# Altium footprint library mw.PcbLib: 252 footprints (part 4 of 16)
Each footprint in its own frame and in the unit in brackets; x right, y up, seen from the top. Pads: shape width x height; smd on the part's side, far side on the other; paste and mask are expansions set on the pad; w line width, h text height; cw(c..) or ccw(c..) is an arc to the next point about the centre after c.
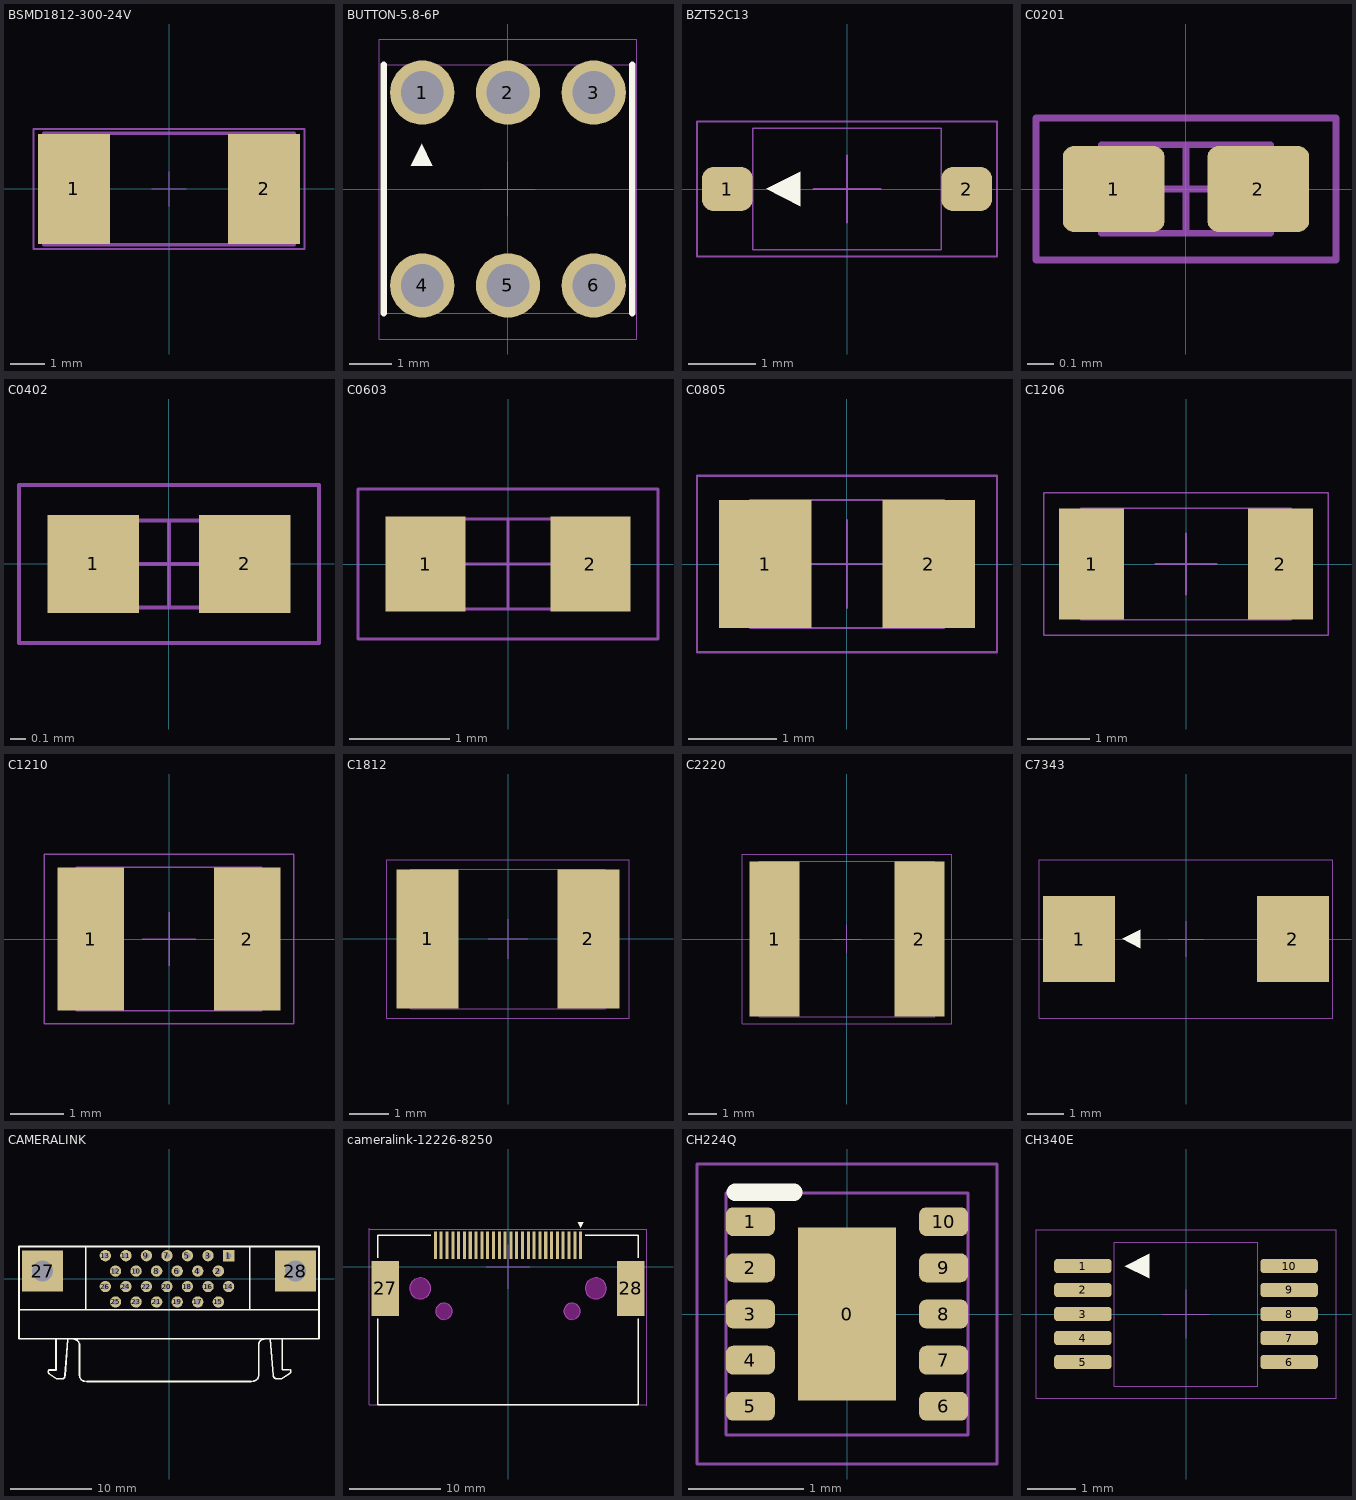
[diagram p3: the footprints below, top view; thin cyan lines are the x and y axes]

## BSMD1812-300-24V [mm] "Chip Diode, 2-Leads, Body 7.16x3.15mm, IPC High Density"
height 1.5
pads (2):
  rect 2.1x3.2 smd: 1(-2.775,0) 2(2.775,0)
Top 3D Body (Mech13):
  lines w0.1: -3.655,-1.625 3.655,-1.625 3.655,1.625 -3.655,1.625 -3.655,-1.625
Top Courtyard:
  lines w0.025: -0.5,0 0.5,0 ; 0,-0.5 0,0.5
  lines w0.05: -3.95,-1.75 3.95,-1.75 3.95,1.75 -3.95,1.75 -3.95,-1.75
3D body "BSMD1812-300-24V.step": height 1.5, standoff 0, extent -3.655,-1.625 3.655,1.625

## BUTTON-5.8-6P [mm]
pads (6):
  round 1.5 hole 1: 1(-2,2.25) 2(0,2.25) 3(2,2.25) 4(-2,-2.25) 5(0,-2.25) 6(2,-2.25)
Top Overlay:
  region: -2.27,0.543 -1.762,0.543 -2.016,1.051
  lines w0.152: -2.9,-2.9 -2.9,2.9 ; 2.9,-2.9 2.9,2.9
Top 3D Body (Mech13):
  lines w0.025: -2.9,-2.9 -2.9,2.9 2.9,2.9 2.9,-2.9 -2.9,-2.9
Top Courtyard:
  lines w0.025: -0.635,0 0.635,0 ; 0,-0.635 0,0.635 ; -3,-3.5 3,-3.5 3,3.5 -3,3.5 -3,-3.5
3D body "BUTTON-5.8-6P.step": height 10, standoff -3.6, extent -2.9,-2.9 2.9,2.9

## BZT52C13 [mm] "TSSOP, 2-Leads, Body 1.65x2.65mm, Pitch 0.50mm, IPC High Density"
height 1.25
pads (2):
  rrect50% 0.75x0.65 smd: 1(-1.775,0) 2(1.775,0)
Top Overlay:
  region: -0.692,-0.254 -0.692,0.254 -1.2,0
Top 3D Body (Mech13):
  lines w0.025: -1.4,-0.9 -1.4,0.9 1.4,0.9 1.4,-0.9 -1.4,-0.9
Top Courtyard:
  lines w0.025: -0.5,0 0.5,0 ; 0,-0.5 0,0.5 ; -2.225,-1 -2.225,1 2.225,1 2.225,-1 -2.225,-1
3D body "BZT52C13 .step": height 1.25, standoff 0, extent -1.875,-0.9 1.875,0.9

## C0201 [mm] "Chip Capacitor, 2-Leads, Body 0.60x0.30mm, IPC High Density"
height 0.33
pads (2):
  rrect25% 0.38x0.32 smd: 1(-0.27,0) 2(0.27,0)
Top 3D Body (Mech13):
  lines w0.025: -0.315,-0.165 -0.315,0.165 0.315,0.165 0.315,-0.165 -0.315,-0.165
Top Courtyard:
  lines w0.025: -0.165,0 0.165,0 ; 0,-0.165 0,0.165 ; -0.56,-0.265 -0.56,0.265 0.56,0.265 0.56,-0.265 -0.56,-0.265
3D body "C0201.step": height 0.33, standoff 0, extent -0.315,-0.165 0.315,0.165

## C0402 [mm] "Chip Capacitor, 2-Leads, Body 1.00x0.50mm, IPC Medium Density"
height 0.55
pads (2):
  rect 0.58x0.62 smd: 1(-0.48,0) 2(0.48,0)
Top 3D Body (Mech13):
  lines w0.025: -0.525,-0.275 0.525,-0.275 0.525,0.275 -0.525,0.275 -0.525,-0.275
Top Courtyard:
  lines w0.025: -0.275,0 0.275,0 ; 0,-0.275 0,0.275 ; -0.95,-0.5 0.95,-0.5 0.95,0.5 -0.95,0.5 -0.95,-0.5
3D body "CAPC1005X06N.step": height 0.55, standoff 0, extent -0.525,-0.275 0.525,0.275

## C0603 [mm] "Chip Capacitor, 2-Leads, Body 1.60x0.80mm, IPC Medium Density"
height 0.9
pads (2):
  rect 0.8x0.95 smd: 1(-0.825,0) 2(0.825,0)
Top 3D Body (Mech13):
  lines w0.025: -0.85,-0.45 0.85,-0.45 0.85,0.45 -0.85,0.45 -0.85,-0.45
Top Courtyard:
  lines w0.025: -0.45,0 0.45,0 ; 0,-0.45 0,0.45 ; -1.5,-0.75 1.5,-0.75 1.5,0.75 -1.5,0.75 -1.5,-0.75
3D body "CAPC1608X09N.step": height 0.9, standoff 0, extent -0.85,-0.45 0.85,0.45

## C0805 [mm] "Chip Capacitor, 2-Leads, Body 2.00x1.25mm, IPC Medium Density"
height 1.45
pads (2):
  rect 1.05x1.45 smd: 1(-0.925,0) 2(0.925,0)
Top 3D Body (Mech13):
  lines w0.025: -1.1,-0.725 1.1,-0.725 1.1,0.725 -1.1,0.725 -1.1,-0.725
Top Courtyard:
  lines w0.025: -0.5,0 0.5,0 ; 0,-0.5 0,0.5 ; -1.7,-1 1.7,-1 1.7,1 -1.7,1 -1.7,-1
3D body "CAPC2012X14N.step": height 1.45, standoff 0, extent -1.1,-0.725 1.1,0.725

## C1206 [mm] "Chip Capacitor, 2-Leads, Body 3.20x1.60mm, IPC Medium Density"
height 1.8
pads (2):
  rect 1.05x1.8 smd: 1(-1.525,0) 2(1.525,0)
Top 3D Body (Mech13):
  lines w0.025: -1.7,-0.9 -1.7,0.9 1.7,0.9 1.7,-0.9 -1.7,-0.9
Top Courtyard:
  lines w0.025: -0.5,0 0.5,0 ; 0,-0.5 0,0.5 ; -2.3,-1.15 -2.3,1.15 2.3,1.15 2.3,-1.15 -2.3,-1.15
3D body "CAPC3216X18N.step": height 1.8, standoff 0, extent -1.7,-0.9 1.7,0.9

## C1210 [mm] "Chip Capacitor, 2-Leads, Body 3.20x2.50mm, IPC Medium Density"
height 2.7
pads (2):
  rect 1.25x2.7 smd: 1(-1.475,0) 2(1.475,0)
Top 3D Body (Mech13):
  lines w0.025: -1.75,-1.35 1.75,-1.35 1.75,1.35 -1.75,1.35 -1.75,-1.35
Top Courtyard:
  lines w0.025: -0.5,0 0.5,0 ; 0,-0.5 0,0.5 ; -2.35,-1.6 2.35,-1.6 2.35,1.6 -2.35,1.6 -2.35,-1.6
3D body "CAPC3225X27N.step": height 2.7, standoff 0, extent -1.75,-1.35 1.75,1.35

## C1812 [mm] "Chip Capacitor, 2-Leads, Body 4.50x3.20mm, IPC Medium Density"
height 2.7
pads (2):
  rect 1.55x3.5 smd: 1(-2.025,0) 2(2.025,0)
Top 3D Body (Mech13):
  lines w0.025: -2.45,-1.75 -2.45,1.75 2.45,1.75 2.45,-1.75 -2.45,-1.75
Top Courtyard:
  lines w0.025: -0.5,0 0.5,0 ; 0,-0.5 0,0.5 ; -3.05,-2 -3.05,2 3.05,2 3.05,-2 -3.05,-2
3D body "CAPC4532X27N.step": height 2.7, standoff 0, extent -2.45,-1.75 2.45,1.75

## C2220 [mm] "Chip Capacitor, 2-Leads, Body 5.70x5.00mm, IPC Medium Density"
height 3.5
pads (2):
  rect 1.75x5.4 smd: 1(-2.525,0) 2(2.525,0)
Top 3D Body (Mech13):
  lines w0.025: -3.05,-2.7 -3.05,2.7 3.05,2.7 3.05,-2.7 -3.05,-2.7
Top Courtyard:
  lines w0.025: -0.5,0 0.5,0 ; 0,-0.5 0,0.5 ; -3.65,-2.95 -3.65,2.95 3.65,2.95 3.65,-2.95 -3.65,-2.95
3D body "CAPC5750X35N.step": height 3.5, standoff 0, extent -3.05,-2.7 3.05,2.7

## C7343 [mm] "CASE-E tan cap"
pads (2):
  rect 2x2.4 smd: 1(-2.975,0) 2(2.975,0)
Top Overlay:
  region: -1.267,-0.254 -1.267,0.254 -1.775,0
Top Courtyard:
  lines w0.025: -0.5,0 0.5,0 ; 0,-0.5 0,0.5 ; -4.089,-2.2 -4.089,2.2 4.089,2.2 4.089,-2.2 -4.089,-2.2
3D body "7343-31-CASE-D-2917.STEP": height 2.92, standoff 0, extent -3.63,-2.166 3.681,2.134

## CAMERALINK [mil]
pads (28):
  rect 55.12x55.12 hole 28: 1(290,112.5)
  round 55.12 hole 28: 2(240,37.5) 3(190,112.5) 4(140,37.5) 5(90,112.5) 6(40,37.5) 7(-10,112.5) 8(-60,37.5) 9(-110,112.5) 10(-160,37.5) 11(-210,112.5) 12(-260,37.5) 13(-310,112.5) 14(290,-37.5) 15(240,-112.5) 16(190,-37.5) 17(140,-112.5) 18(90,-37.5) 19(40,-112.5) 20(-10,-37.5) 21(-60,-112.5) 22(-110,-37.5) 23(-160,-112.5) 24(-210,-37.5) 25(-260,-112.5) 26(-310,-37.5)
  rect 200x200 hole 102: 27(-615.5,37.5) 28(615.5,37.5)
Top Overlay:
  lines w7.87: -730,-150 730,-150 ; -583.96,-462.55 -546.96,-487.26 -518.52,-487.26 ccw(c-522.55,-471.61) -506.39,-471.61 ; -583.41,-461.95 cw(c-574.52,-452.32) -584.36,-443.65 -549.71,-443.65 -549.71,-294.44 ; -506.41,-472.39 -491.84,-294.44 ; -462.7,-294.64 cw(c-462.7,-322) -435.34,-322 -435.34,-471.61 ; -435.08,-471.2 ccw(c-407.72,-471.2) -407.72,-498.56 ; -405.15,-150 -405.15,157.5 ; -400,-500 400,-500 ; 393.42,-150 393.42,157.5 ; 408.93,-497.69 ccw(c408.93,-470.32) 436.29,-470.32 ; 436.49,-470.13 436.49,-320.52 cw(c463.85,-320.52) 463.85,-293.16 ; 492.99,-292.96 507.55,-470.91 ; 507.53,-470.13 ccw(c523.7,-470.13) 519.67,-485.78 548.1,-485.78 585.11,-461.07 ; 550.86,-292.96 550.86,-442.17 585.51,-442.17 ; 588.89,-460.06 ccw(c580,-450.42) 589.84,-441.76 ; -730,-292.5 730,-292.5 730,157.5 -730,157.5 -730,-292.5

## cameralink-12226-8250 [mil]
pads (28):
  rect 13x118 smd paste+0: 1(312.5,92.52) 2(262.5,92.52) 3(212.5,92.52) 4(162.5,92.52) 5(112.5,92.52) 6(62.5,92.52) 7(12.5,92.52) 8(-37.5,92.52) 9(-87.5,92.52) 10(-137.5,92.52) 11(-187.5,92.52) 12(-237.5,92.52) 13(-287.5,92.52) 14(287.5,92.52) 15(237.5,92.52) 16(187.5,92.52) 17(137.5,92.52) 18(87.5,92.52) 19(37.5,92.52) 20(-12.5,92.52) 21(-62.5,92.52) 22(-112.5,92.52) 23(-162.5,92.52) 24(-212.5,92.52) 25(-262.5,92.52) 26(-312.5,92.52)
  rect 118x236 smd paste-118: 27(-527.56,-92.52) 28(527.56,-92.52)
Top Overlay:
  region: 300.69,192.91 312.5,169.29 324.31,192.91
  lines w6: -560,-223.62 -560,-593.11 560,-593.11 560,-223.62 ; -560,38.58 -560,136.89 -332.1,136.89 ; 332.1,136.89 560,136.89 560,38.58
Keep-Out Layer:
  board cut-out: -377.95,-137.8 -382.41,-137.8 -391.16,-136.06 -399.4,-132.64 -406.81,-127.69 -413.12,-121.38 -418.08,-113.97 -421.49,-105.73 -423.23,-96.98 -423.23,-92.52 -423.23,-88.06 -421.49,-79.31 -418.08,-71.07 -413.12,-63.66 -406.81,-57.35 -399.4,-52.4 -391.16,-48.98 -382.41,-47.24 -377.95,-47.24 -373.49,-47.24 -364.75,-48.98 -356.51,-52.4 -349.09,-57.35 -342.78,-63.66 -337.83,-71.07 -334.42,-79.31 -332.68,-88.06 -332.68,-92.52 -332.68,-96.98 -334.42,-105.73 -337.83,-113.97 -342.78,-121.38 -349.09,-127.69 -356.51,-132.64 -364.75,-136.06 -373.49,-137.8
  board cut-out: 240.16,-190.94 240.16,-194.43 241.52,-201.28 244.19,-207.72 248.07,-213.53 253,-218.46 258.81,-222.34 265.25,-225.01 272.1,-226.37 275.59,-226.37 279.08,-226.37 285.93,-225.01 292.37,-222.34 298.18,-218.46 303.11,-213.53 306.99,-207.72 309.66,-201.28 311.02,-194.43 311.02,-190.94 311.02,-187.45 309.66,-180.6 306.99,-174.16 303.11,-168.35 298.18,-163.42 292.37,-159.54 285.93,-156.87 279.08,-155.51 275.59,-155.51 272.1,-155.51 265.25,-156.87 258.81,-159.54 253,-163.42 248.07,-168.35 244.19,-174.16 241.52,-180.6 240.16,-187.45
  board cut-out: 332.68,-92.52 332.68,-96.98 334.42,-105.73 337.83,-113.97 342.78,-121.38 349.09,-127.69 356.51,-132.64 364.75,-136.06 373.49,-137.8 377.95,-137.8 382.41,-137.8 391.16,-136.06 399.4,-132.64 406.81,-127.69 413.12,-121.38 418.08,-113.97 421.49,-105.73 423.23,-96.98 423.23,-92.52 423.23,-88.06 421.49,-79.31 418.08,-71.07 413.12,-63.66 406.81,-57.35 399.4,-52.4 391.16,-48.98 382.41,-47.24 377.95,-47.24 373.49,-47.24 364.75,-48.98 356.51,-52.4 349.09,-57.35 342.78,-63.66 337.83,-71.07 334.42,-79.31 332.68,-88.06
  board cut-out: -275.59,-226.37 -279.08,-226.37 -285.93,-225.01 -292.37,-222.34 -298.18,-218.46 -303.11,-213.53 -306.99,-207.72 -309.66,-201.28 -311.02,-194.43 -311.02,-190.94 -311.02,-187.45 -309.66,-180.6 -306.99,-174.16 -303.11,-168.35 -298.18,-163.42 -292.37,-159.54 -285.93,-156.87 -279.08,-155.51 -275.59,-155.51 -272.1,-155.51 -265.25,-156.87 -258.81,-159.54 -253,-163.42 -248.07,-168.35 -244.19,-174.16 -241.52,-180.6 -240.16,-187.45 -240.16,-190.94 -240.16,-194.43 -241.52,-201.28 -244.19,-207.72 -248.07,-213.53 -253,-218.46 -258.81,-222.34 -265.25,-225.01 -272.1,-226.37
Mechanical 1:
  circle w0: c-275.59,-190.94 r35.43
  circle w0: c-377.95,-92.52 r45.28
  circle w0: c377.95,-92.52 r45.28
  circle w0: c275.59,-190.94 r35.43
Top Courtyard:
  lines w1: -596.56,161.52 596.56,161.52 596.56,-598.11 ; -596.56,166.52 -596.56,-593.11 596.56,-593.11 ; -94.49,0 94.49,0 ; 0,-94.49 0,94.49
3D body "12226-8250-00FR.stp": height 196.85, standoff -23.62, extent -555.12,-593.11 555.12,127.36

## CH224Q [mm] "PSON, 10-Leads, Body 2.00x2.00mm, Pitch 0.40mm, Thermal Pad 1.50x0.85mm, IPC Medium Density"
height 0.8
pads (11):
  rect 0.85x1.5 smd paste-0.195: 0(0,0)
  rrect50% 0.425x0.25 smd: 1(-0.837,0.8) 2(-0.837,0.4) 3(-0.837,0) 4(-0.837,-0.4) 5(-0.837,-0.8) 6(0.838,-0.8) 7(0.838,-0.4) 8(0.838,0) 9(0.838,0.4) 10(0.838,0.8)
Top Overlay:
  lines w0.15: -0.968,1.055 -0.46,1.055
Top 3D Body (Mech13):
  lines w0.025: -1.05,-1.05 -1.05,1.05 1.05,1.05 1.05,-1.05 -1.05,-1.05
Top Courtyard:
  lines w0.025: -0.381,0 0.381,0 ; 0,-0.381 0,0.381 ; -1.3,-1.3 1.3,-1.3 1.3,1.3 -1.3,1.3 -1.3,-1.3
3D body "CH224Q.step": height 0.8, standoff 0, extent -1.001,-1 1.001,1

## CH340E [mm] "TSSOP, 10-Leads, Body 3.00x3.00mm, Pitch 0.50mm, IPC Medium Density"
height 1
pads (10):
  rrect50% 1.2x0.3 smd: 1(-2.149,1) 2(-2.149,0.5) 3(-2.149,0) 4(-2.149,-0.5) 5(-2.149,-1) 6(2.149,-1) 7(2.149,-0.5) 8(2.149,0) 9(2.149,0.5) 10(2.149,1)
Top Overlay:
  region: -0.769,0.746 -0.769,1.254 -1.277,1
Top 3D Body (Mech13):
  lines w0.025: -1.5,-1.5 -1.5,1.5 1.5,1.5 1.5,-1.5 -1.5,-1.5
Top Courtyard:
  lines w0.025: -0.5,0 0.5,0 ; 0,-0.5 0,0.5 ; -3.125,-1.75 3.125,-1.75 3.125,1.75 -3.125,1.75 -3.125,-1.75
3D body "CH340E.step": height 1, standoff 0, extent -2.45,-1.5 2.45,1.5